# EAGLE library part IP4282CZ6 (library ParanoidStudio)
Ultra-low capacitance ESD protection for high-speed interfaces
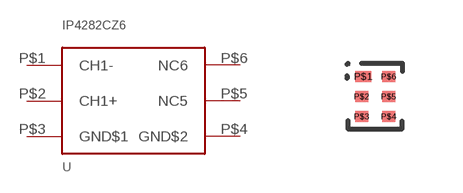
[diagram p2: symbol with the pads of SOT886; footprint SOT886]

Designator prefix -

## IP4282CZ6  [SOT886]
P$1  CH1-
P$2  CH1+
P$3  GND$1
P$4  GND$2
P$5  NC5
P$6  NC6

## Footprint SOT886 (pad centres in mm)
Plastic Extremely Thin Small Outline Package no leads - 6 terminals - body 1 x 1.45 x 0.5 mm http://www.nxp.com/documents/outline_drawing/sot886_po.pdf
smd 0.4 x 0.27: P$1 -0.3,0.5
smd 0.325 x 0.27: P$2 -0.338,0; P$3 -0.338,-0.5; P$4 0.338,-0.5; P$5 0.338,0; P$6 0.338,0.5